# Altium integrated library AP9214L-AN-HSB-7.IntLib: 1 symbol
Pins are listed as number, name and electrical type; pins without a type are passive.

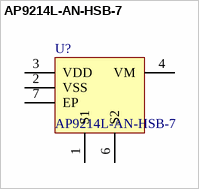
[diagram p0: symbol AP9214L-AN-HSB-7]

## AP9214L-AN-HSB-7
designator U?
IC BATT PROT LI-ION 1CELL 6UDFN; Value: AP9214L-AN-HSB-7; ComponentLink1Description: Digikey; ComponentLink1URL: https://www.digikey.com/en/products/detail/AP9214L-AN-HSB-7/AP9214L-AN-HSB-7DICT-ND/7605273?itemSeq=377508310; Supplier 1: Digi-Key; Supplier Part Number 1: AP9214L-AN-HSB-7DICT-ND; MPN: AP9214L-AN-HSB-7
footprint U-DFN2535-6  (Type B) (AP9214L-AN-HSB-7)
pins: 1 S1, 2 VSS (power), 3 VDD (power), 4 VM, 6 S2, 7 EP (power)